# Altium footprint library connectors.PcbLib: 3 footprints
Each footprint in its own frame and in the unit in brackets; x right, y up, seen from the top. Pads: shape width x height; smd on the part's side, far side on the other; paste and mask are expansions set on the pad; w line width, h text height; cw(c..) or ccw(c..) is an arc to the next point about the centre after c.
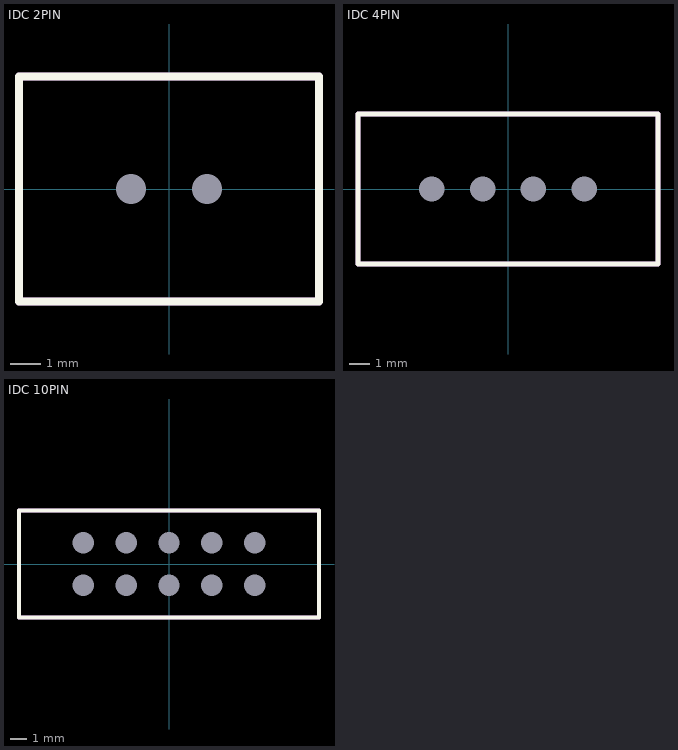
[diagram p0: the footprints below, top view; thin cyan lines are the x and y axes]

## IDC 2PIN [mm]
pads (2):
  round 0 / inner round 1.778 / far side round 1.778 hole 1: 1(-1.27,0)
  round 0 / inner round 1.524 / far side round 1.778 hole 1: 2(1.27,0)
Top Overlay:
  lines w0.254: -5,-3.75 -5,3.75 5,3.75 5,-3.75 -5,-3.75
Mechanical 1:
  lines w0.254: -5,-3.75 -5,3.75 0,3.75 5,3.75 5,-3.75 -5,-3.75
3D body: height 11.9, standoff 0, extent -5,-3.75 5,3.75
3D body: height 11.9, standoff 0, extent -4,-3.75 -1.5,-2.75
3D body: height 11.9, standoff 0, extent 1.5,-3.75 4,-2.75
3D body: height 10, standoff 3, extent -1.75,-0.5 -0.75,0.5
3D body: height 10, standoff 3, extent 0.75,-0.5 1.75,0.5
3D body: height 3, standoff 0, extent -4,-2.75 4.25,2.75

## IDC 4PIN [mil]
pads (4):
  round 0 / inner round 60 / far side round 70 hole 50: 1(-150,0) 2(-50,0) 4(150,0)
  round 0 / inner round 70 / far side round 70 hole 50: 3(50,0)
Top Overlay:
  lines w10: -295.28,-147.64 -295.28,147.64 295.28,147.64 295.28,-147.64 -295.28,-147.64
Mechanical 1:
  lines w10: -295.28,-147.64 -295.28,147.64 295.28,147.64 295.28,-147.64 -295.28,-147.64
3D body: height 472.44, standoff 0, extent 196.85,-147.64 255.91,-108.27
3D body: height 472.44, standoff 0, extent -255.91,-147.64 -196.85,-108.27
3D body: height 472.44, standoff 0, extent 255.91,-147.64 295.28,108.27
3D body: height 472.44, standoff 0, extent -295.28,108.27 295.28,147.64
3D body: height 472.44, standoff 0, extent -295.28,-147.64 -255.91,108.27
3D body: height 393.7, standoff 137.8, extent -160,-20 -120,20
3D body: height 393.7, standoff 137.8, extent 130,-20 170,20
3D body: height 393.7, standoff 137.8, extent 30,-20 70,20
3D body: height 393.7, standoff 137.8, extent -70,-20 -30,20
3D body: height 118.11, standoff 0, extent -265.9,-108.27 245.91,108.27

## IDC 10PIN [mil]
pads (10):
  round 0 / inner round 70 / far side round 70 hole 50: 1(-200,50) 2(-100,50) 3(0,50) 4(100,50) 5(200,50) 6(-200,-50) 7(-100,-50) 8(0,-50) 9(100,-50) 10(200,-50)
Top Overlay:
  lines w10: -350,-125 350,-125 350,125 -350,125 -350,-125
Mechanical 1:
  lines w10: -350,-125 -350,125 350,125 350,-125 -350,-125
3D body: height 350.39, standoff 0, extent -320,-125 -100,-95
3D body: height 350.39, standoff 0, extent 100,-125 320,-95
3D body: height 350.39, standoff 0, extent 320,-125 350,95
3D body: height 350.39, standoff 0, extent -320,95 350,125
3D body: height 350.39, standoff 0, extent -350,-125 -320,125
3D body: height 295.28, standoff 59.06, extent -225,25 -175,75
3D body: height 295.28, standoff 59.06, extent -125,25 -75,75
3D body: height 295.28, standoff 59.06, extent -25,25 25,75
3D body: height 295.28, standoff 59.06, extent 75,25 125,75
3D body: height 295.28, standoff 59.06, extent 175,25 225,75
3D body: height 295.28, standoff 59.06, extent -225,-75 -175,-25
3D body: height 295.28, standoff 59.06, extent -125,-75 -75,-25
3D body: height 295.28, standoff 59.06, extent -25,-75 25,-25
3D body: height 295.28, standoff 59.06, extent 75,-75 125,-25
3D body: height 295.28, standoff 59.06, extent 175,-75 225,-25
3D body: height 59.06, standoff 0, extent -320,-95 320,95